# EAGLE library part LSM303DLHC (library X893)
http://www.st.com/internet/analog/product/251940.jsp
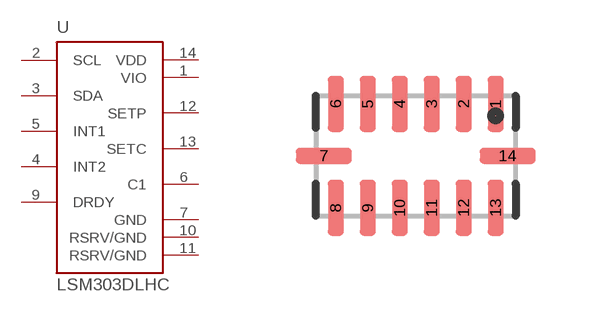
[diagram p167: symbol with the pads of LGA14; footprint LGA14]

Designator prefix U

## LSM303DLHC  [LGA14]
1  VIO  pwr
2  SCL
3  SDA
4  INT2  out
5  INT1  out
6  C1  pas
7  GND  sup
9  DRDY  out
10  RSRV/GND  sup
11  RSRV/GND  sup
12  SETP  pas
13  SETC  pas
14  VDD  pwr

## Footprint LGA14 (pad centres in mm)
smd 0.4 x 1.4: 1 2,1.3; 2 1.2,1.3; 3 0.4,1.3; 4 -0.4,1.3; 5 -1.2,1.3; 6 -2,1.3; 8 -2,-1.3; 9 -1.2,-1.3; 10 -0.4,-1.3; 11 0.4,-1.3; 12 1.2,-1.3; 13 2,-1.3
smd 1.4 x 0.4: 7 -2.3,0; 14 2.3,0